# Altium footprint library za_koncar.PcbLib: 43 footprints (part 2 of 3)
Each footprint in its own frame and in the unit in brackets; x right, y up, seen from the top. Pads: shape width x height; smd on the part's side, far side on the other; paste and mask are expansions set on the pad; w line width, h text height; cw(c..) or ccw(c..) is an arc to the next point about the centre after c.
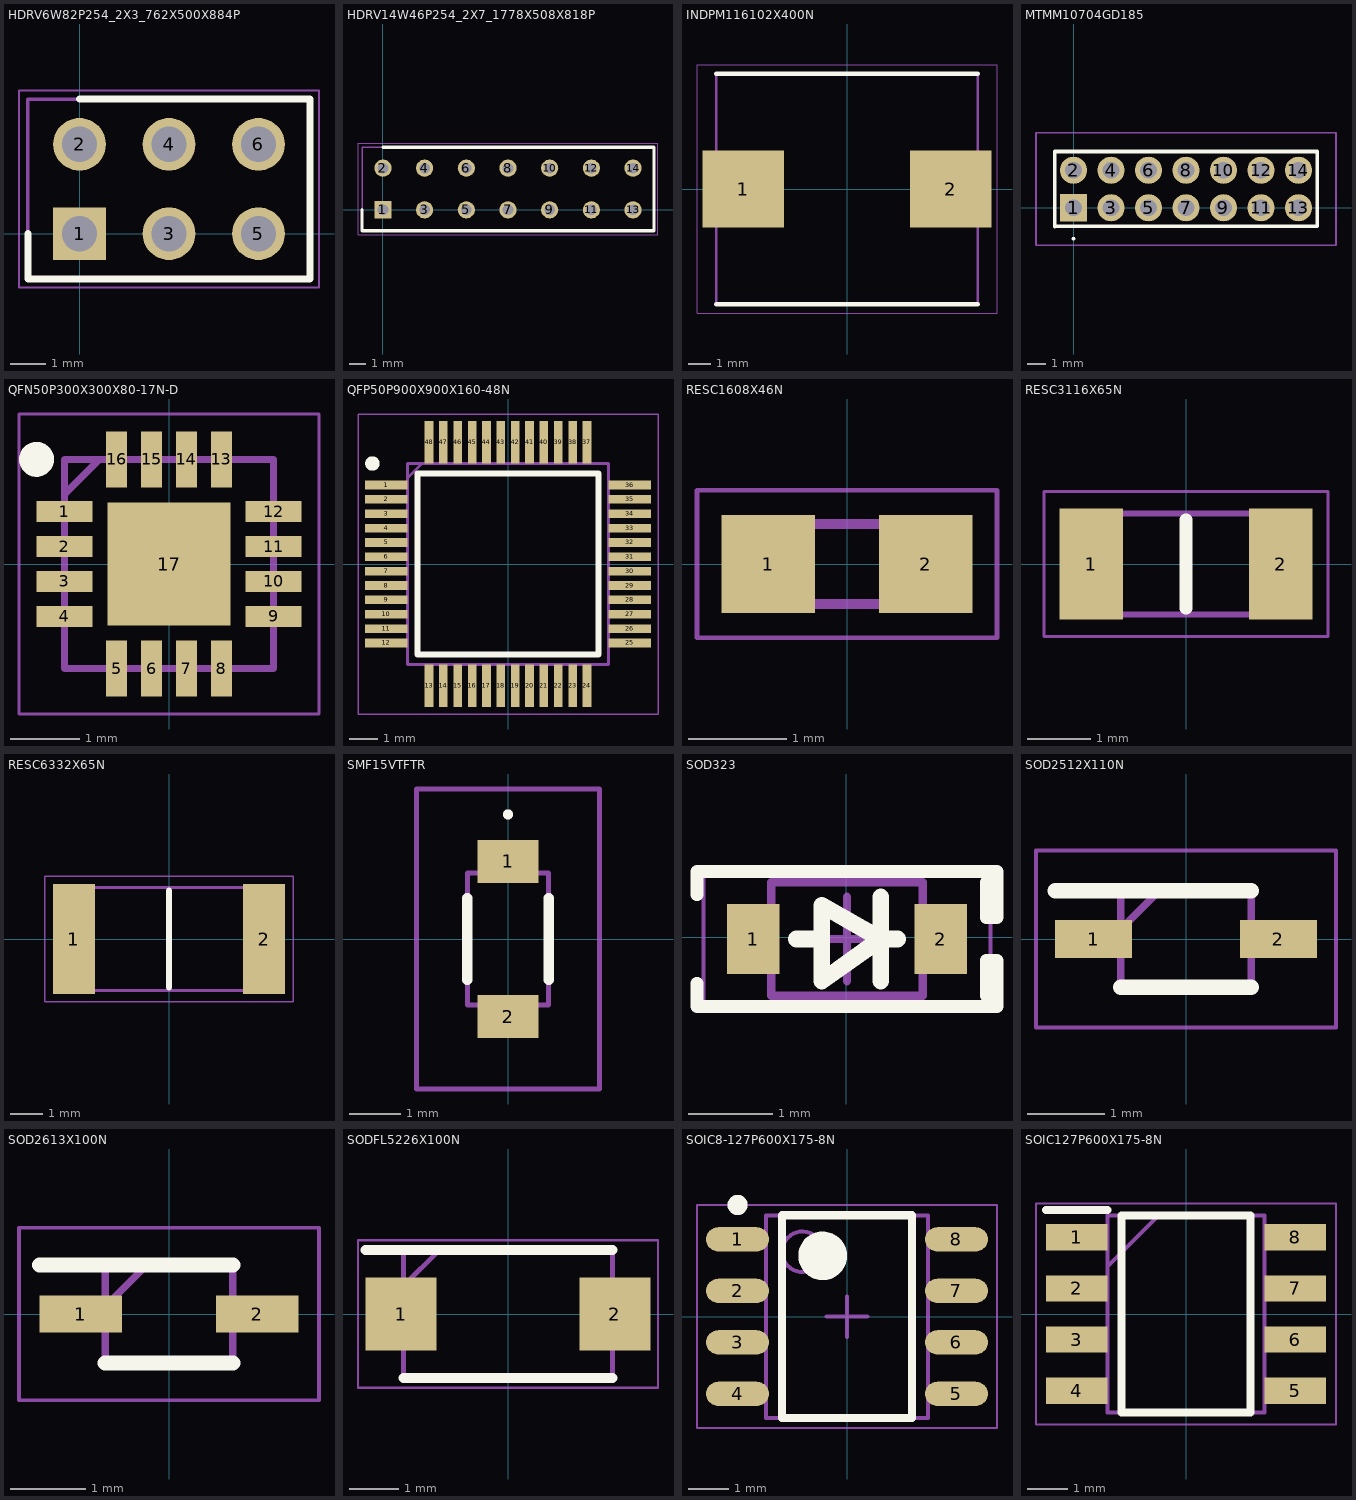
[diagram p1: the footprints below, top view; thin cyan lines are the x and y axes]

## HDRV6W82P254_2X3_762X500X884P [mm]
pads (6):
  rect 1.5x1.5 hole 1: 1(0,0)
  round 1.5 hole 1: 2(0,2.54) 3(2.54,0) 4(2.54,2.54) 5(5.08,0) 6(5.08,2.54)
Top Overlay:
  lines w0.2: -1.47,0 -1.47,-1.28 6.55,-1.28 6.55,3.82 0,3.82
Mechanical 13:
  lines w0.1: -1.47,-1.28 6.55,-1.28 6.55,3.82 -1.47,3.82 -1.47,-1.28
Mechanical 15:
  lines w0.05: -1.72,-1.53 6.8,-1.53 6.8,4.07 -1.72,4.07 -1.72,-1.53
3D body "PRT-12807.stp": height 8.84, standoff -3.2, extent -1.27,-1.23 6.35,3.77

## HDRV14W46P254_2X7_1778X508X818P [mm]
pads (14):
  rect 1.05x1.05 hole 0.65: 1(0,0)
  round 1.05 hole 0.65: 2(0,2.54) 3(2.54,0) 4(2.54,2.54) 5(5.08,0) 6(5.08,2.54) 7(7.62,0) 8(7.62,2.54) 9(10.16,0) 10(10.16,2.54) 11(12.7,0) 12(12.7,2.54) 13(15.24,0) 14(15.24,2.54)
Top Overlay:
  lines w0.2: -1.27,0 -1.27,-1.27 16.51,-1.27 16.51,3.81 0,3.81
Mechanical 13:
  lines w0.1: -1.27,-1.27 -1.27,3.81 16.51,3.81 16.51,-1.27 -1.27,-1.27
Mechanical 15:
  lines w0.05: -1.52,-1.52 -1.52,4.06 16.76,4.06 16.76,-1.52 -1.52,-1.52
3D body "TD-107-G-AA.stp": height 8.18, standoff -4.34, extent -1.27,-1.27 16.51,3.81

## INDPM116102X400N [mm]
pads (2):
  rect 3.6x3.4 smd: 1(-4.6,0) 2(4.6,0)
Top Overlay:
  lines w0.2: -5.8,-5.1 5.8,-5.1 ; -5.8,5.1 5.8,5.1
Mechanical 13:
  lines w0.1: -5.8,-5.1 -5.8,5.1 5.8,5.1 5.8,-5.1 -5.8,-5.1
Mechanical 15:
  lines w0.05: -6.65,-5.5 -6.65,5.5 6.65,5.5 6.65,-5.5 -6.65,-5.5
3D body "AMRM00101040330MA1.stp": height 4, standoff 0, extent -5.8,-5.1 5.8,5.1

## MTMM10704GD185 [mm]
pads (14):
  rect 1.446x1.446 hole 0.89: 1(0,0)
  round 1.446 hole 0.89: 2(0,2) 3(2,0) 4(2,2) 5(4,0) 6(4,2) 7(6,0) 8(6,2) 9(8,0) 10(8,2) 11(10,0) 12(10,2) 13(12,0) 14(12,2)
Top Overlay:
  lines w0.1: 0,-1.7 ccw(c0,-1.65) 0,-1.6 ; 0,-1.7 cw(c0,-1.65) 0,-1.6 ; 0,-1.7 ccw(c0,-1.65) 0,-1.6
  lines w0.2: -1,2.969 -1,-1 13,-0.969 13,3 -1,3
Mechanical 13:
  lines w0.1: -1,-0.969 -1,2.969 13,2.969 13,-0.969 -1,-0.969
Mechanical 15:
  lines w0.1: -2,-2 -2,4 14,4 14,-2 -2,-2
3D body "MTMM-107-04-G-D-185.stp": height 6.13, standoff -2.08, extent -1,-0.968 13,2.969

## QFN50P300X300X80-17N-D [mm]
pads (17):
  rect 0.8x0.3 smd: 1(-1.5,0.75) 2(-1.5,0.25) 3(-1.5,-0.25) 4(-1.5,-0.75) 9(1.5,-0.75) 10(1.5,-0.25) 11(1.5,0.25) 12(1.5,0.75)
  rect 0.3x0.8 smd: 5(-0.75,-1.5) 6(-0.25,-1.5) 7(0.25,-1.5) 8(0.75,-1.5) 13(0.75,1.5) 14(0.25,1.5) 15(-0.25,1.5) 16(-0.75,1.5)
  rect 1.76x1.76 smd: 17(0,0)
Top Overlay:
  circle w0.25: c-1.9,1.5 r0.125
Mechanical 13:
  lines w0.1: -1.5,1 -1,1.5 ; -1.5,-1.5 -1.5,1.5 1.5,1.5 1.5,-1.5 -1.5,-1.5
Mechanical 15:
  lines w0.05: -2.15,-2.15 -2.15,2.15 2.15,2.15 2.15,-2.15 -2.15,-2.15
3D body "DAC53204RTER.stp": height 0.8, standoff 0, extent -1.5,-1.5 1.5,1.5

## QFP50P900X900X160-48N [mm]
pads (48):
  rect 1.475x0.3 smd: 1(-4.238,2.75) 2(-4.238,2.25) 3(-4.238,1.75) 4(-4.238,1.25) 5(-4.238,0.75) 6(-4.238,0.25) 7(-4.238,-0.25) 8(-4.238,-0.75) 9(-4.238,-1.25) 10(-4.238,-1.75) 11(-4.238,-2.25) 12(-4.238,-2.75) 25(4.238,-2.75) 26(4.238,-2.25) 27(4.238,-1.75) 28(4.238,-1.25) 29(4.238,-0.75) 30(4.238,-0.25) 31(4.238,0.25) 32(4.238,0.75) 33(4.238,1.25) 34(4.238,1.75) 35(4.238,2.25) 36(4.238,2.75)
  rect 0.3x1.475 smd: 13(-2.75,-4.238) 14(-2.25,-4.238) 15(-1.75,-4.238) 16(-1.25,-4.238) 17(-0.75,-4.238) 18(-0.25,-4.238) 19(0.25,-4.238) 20(0.75,-4.238) 21(1.25,-4.238) 22(1.75,-4.238) 23(2.25,-4.238) 24(2.75,-4.238) 37(2.75,4.238) 38(2.25,4.238) 39(1.75,4.238) 40(1.25,4.238) 41(0.75,4.238) 42(0.25,4.238) 43(-0.25,4.238) 44(-0.75,4.238) 45(-1.25,4.238) 46(-1.75,4.238) 47(-2.25,4.238) 48(-2.75,4.238)
Top Overlay:
  circle w0.25: c-4.725,3.5 r0.125
  lines w0.2: -3.15,-3.15 3.15,-3.15 3.15,3.15 -3.15,3.15 -3.15,-3.15
Mechanical 13:
  lines w0.1: -3.5,3 -3,3.5 ; -3.5,-3.5 3.5,-3.5 3.5,3.5 -3.5,3.5 -3.5,-3.5
Mechanical 15:
  lines w0.05: -5.225,-5.225 5.225,-5.225 5.225,5.225 -5.225,5.225 -5.225,-5.225
3D body "STM32G431C6T6.stp": height 1.6, standoff 0, extent -4.5,-4.5 4.5,4.5

## RESC1608X46N [mm]
pads (2):
  rect 0.95x1 smd: 1(-0.8,0) 2(0.8,0)
Mechanical 13:
  lines w0.1: -0.813,-0.406 -0.813,0.406 0.813,0.406 0.813,-0.406 -0.813,-0.406
Mechanical 15:
  lines w0.05: -1.525,-0.75 -1.525,0.75 1.525,0.75 1.525,-0.75 -1.525,-0.75
3D body "PAT0603E4000BST1.stp": height 0.46, standoff 0, extent -0.813,-0.406 0.813,0.406

## RESC3116X65N [mm]
pads (2):
  rect 1x1.75 smd: 1(-1.5,0) 2(1.5,0)
Top Overlay:
  lines w0.2: 0,-0.7 0,0.7
Mechanical 13:
  lines w0.1: -1.55,-0.8 -1.55,0.8 1.55,0.8 1.55,-0.8 -1.55,-0.8
Mechanical 15:
  lines w0.05: -2.25,-1.15 -2.25,1.15 2.25,1.15 2.25,-1.15 -2.25,-1.15
3D body "RT1206BRD07400RL.stp": height 0.65, standoff 0, extent -1.55,-0.8 1.55,0.8

## RESC6332X65N [mm]
pads (2):
  rect 1.3x3.4 smd: 1(-2.95,0) 2(2.95,0)
Top Overlay:
  lines w0.2: 0,-1.5 0,1.5
Mechanical 13:
  lines w0.1: -3.15,-1.6 3.15,-1.6 3.15,1.6 -3.15,1.6 -3.15,-1.6
Mechanical 15:
  lines w0.05: -3.85,-1.95 3.85,-1.95 3.85,1.95 -3.85,1.95 -3.85,-1.95
3D body "RNCL2512FT50R0.stp": height 0.65, standoff 0, extent -3.15,-1.6 3.15,1.6

## SMF15VTFTR [mm]
pads (2):
  rect 1.2x0.85 smd: 1(0,1.525) 2(0,-1.525)
Top Overlay:
  lines w0.1: 0,2.4 cw(c0,2.45) 0,2.5 cw(c0,2.45) 0,2.4
  lines w0.2: -0.8,-0.8 -0.8,0.8 ; 0.8,-0.8 0.8,0.8
Mechanical 13:
  lines w0.1: -0.8,-1.3 -0.8,1.3 0.8,1.3 0.8,-1.3 -0.8,-1.3
Mechanical 15:
  lines w0.1: -1.8,-2.95 -1.8,2.95 1.8,2.95 1.8,-2.95 -1.8,-2.95
3D body "SMF15VTFTR.stp": height 1, standoff 0, extent -0.8,-1.865 0.8,1.865

## SOD323 [mm]
pads (2):
  rect 0.625x0.83 smd: 1(-1.101,-0.02) 2(1.124,-0.02)
Top Overlay:
  lines w0.15: -1.767,-0.545 -1.767,-0.82 1.789,-0.82 ; -1.767,0.505 -1.767,0.78 1.789,0.78 ; 1.789,-0.82 1.789,-0.274 1.662,-0.274 1.662,-0.693 1.789,-0.82 ; 1.789,0.78 1.789,0.234 1.662,0.234 1.662,0.653 1.789,0.78
  lines w0.2: -0.589,-0.02 -0.289,-0.02 ; 0.411,-0.52 0.411,0.48 ; 0.611,-0.02 0.411,-0.02 ; 0.411,-0.02 -0.289,-0.52 -0.289,0.38 0.411,-0.02
Mechanical 13:
  lines w0.1: -0.889,-0.695 0.911,-0.695 0.911,0.655 -0.889,0.655 -0.889,-0.695
Mechanical 15:
  lines w0.05: -1.689,-0.87 1.711,-0.87 1.711,0.83 -1.689,0.83 -1.689,-0.87
  lines w0.1: -0.489,-0.02 0.511,-0.02 ; 0.011,-0.52 0.011,0.48
3D body "SOD-323.step": height 1.05, standoff 0, extent -1.349,-0.645 1.371,0.605

## SOD2512X110N [mm]
pads (2):
  rect 1x0.5 smd: 1(-1.2,0) 2(1.2,0)
Top Overlay:
  lines w0.2: -1.7,0.625 0.85,0.625 ; -0.85,-0.625 0.85,-0.625
Mechanical 13:
  lines w0.1: -0.85,0.125 -0.35,0.625 ; -0.85,-0.625 -0.85,0.625 0.85,0.625 0.85,-0.625 -0.85,-0.625
Mechanical 15:
  lines w0.05: -1.95,-1.15 -1.95,1.15 1.95,1.15 1.95,-1.15 -1.95,-1.15
3D body "NSR0340HT1G.stp": height 1.1, standoff 0, extent -1.25,-0.625 1.25,0.625

## SOD2613X100N [mm]
pads (2):
  rect 1.1x0.5 smd: 1(-1.175,0) 2(1.175,0)
Top Overlay:
  lines w0.2: -1.725,0.65 0.85,0.65 ; -0.85,-0.65 0.85,-0.65
Mechanical 13:
  lines w0.1: -0.85,0.1 -0.3,0.65 ; -0.85,-0.65 -0.85,0.65 0.85,0.65 0.85,-0.65 -0.85,-0.65
Mechanical 15:
  lines w0.05: -2,-1.15 -2,1.15 2,1.15 2,-1.15 -2,-1.15
3D body "AQW05C-01FTG.stp": height 1, standoff 0, extent -1.312,-0.65 1.312,0.65

## SODFL5226X100N [mm]
pads (2):
  rect 1.45x1.49 smd: 1(-2.175,0) 2(2.175,0)
Top Overlay:
  lines w0.2: -2.9,1.3 2.125,1.3 ; -2.125,-1.3 2.125,-1.3
Mechanical 13:
  lines w0.1: -2.125,0.575 -1.4,1.3 ; -2.125,-1.3 -2.125,1.3 2.125,1.3 2.125,-1.3 -2.125,-1.3
Mechanical 15:
  lines w0.05: -3.05,-1.5 -3.05,1.5 3.05,1.5 3.05,-1.5 -3.05,-1.5
3D body "TA6F18CAHM3_H.stp": height 1, standoff 0, extent -2.658,-1.295 2.658,1.295

## SOIC8-127P600X175-8N [mm] "SOIC, 8-Leads, Body 4.91x3.90mm, Pitch 1.27mm, IPC Medium Density"
height 1.75
pads (8):
  oval 1.55x0.6 smd: 1(-2.7,1.905) 2(-2.7,0.635) 3(-2.7,-0.635) 4(-2.7,-1.905) 5(2.7,-1.905) 6(2.7,-0.635) 7(2.7,0.635) 8(2.7,1.905)
Top Overlay:
  circle w0.6: c-0.6,1.5 r0.3
  circle w0.25: c-2.7,2.755 r0.125
  lines w0.2: -1.6,-2.5 1.6,-2.5 1.6,2.5 -1.6,2.5 -1.6,-2.5
Mechanical 13:
  circle w0.1: c-1.1,1.6 r0.5
  lines w0.1: -2,-2.5 2,-2.5 2,2.5 -2,2.5 -2,-2.5
Mechanical 15:
  lines w0.05: -3.7,-2.75 3.7,-2.75 3.7,2.75 -3.7,2.75 -3.7,-2.75
  lines w0.1: -0.5,0 0.5,0 ; 0,-0.5 0,0.5
3D body "SOIC8-127P600X175-8N.step": height 1.75, standoff 0, extent -2.997,-2.5 2.997,2.5

## SOIC127P600X175-8N [mm]
pads (8):
  rect 1.525x0.65 smd: 1(-2.712,1.905) 2(-2.712,0.635) 3(-2.712,-0.635) 4(-2.712,-1.905) 5(2.712,-1.905) 6(2.712,-0.635) 7(2.712,0.635) 8(2.712,1.905)
Top Overlay:
  lines w0.2: -3.475,2.58 -1.95,2.58 ; -1.6,-2.45 -1.6,2.45 1.6,2.45 1.6,-2.45 -1.6,-2.45
Mechanical 13:
  lines w0.1: -1.95,1.18 -0.68,2.45 ; -1.95,-2.45 -1.95,2.45 1.95,2.45 1.95,-2.45 -1.95,-2.45
Mechanical 15:
  lines w0.05: -3.725,-2.75 -3.725,2.75 3.725,2.75 3.725,-2.75 -3.725,-2.75
3D body "SRDA3.3-4BTG.stp": height 1.75, standoff 0, extent -3,-2.45 3,2.45